# Altium footprint library TracksTest.PcbLib: 6 footprints
Each footprint in its own frame and in the unit in brackets; x right, y up, seen from the top. Pads: shape width x height; smd on the part's side, far side on the other; paste and mask are expansions set on the pad; w line width, h text height; cw(c..) or ccw(c..) is an arc to the next point about the centre after c.
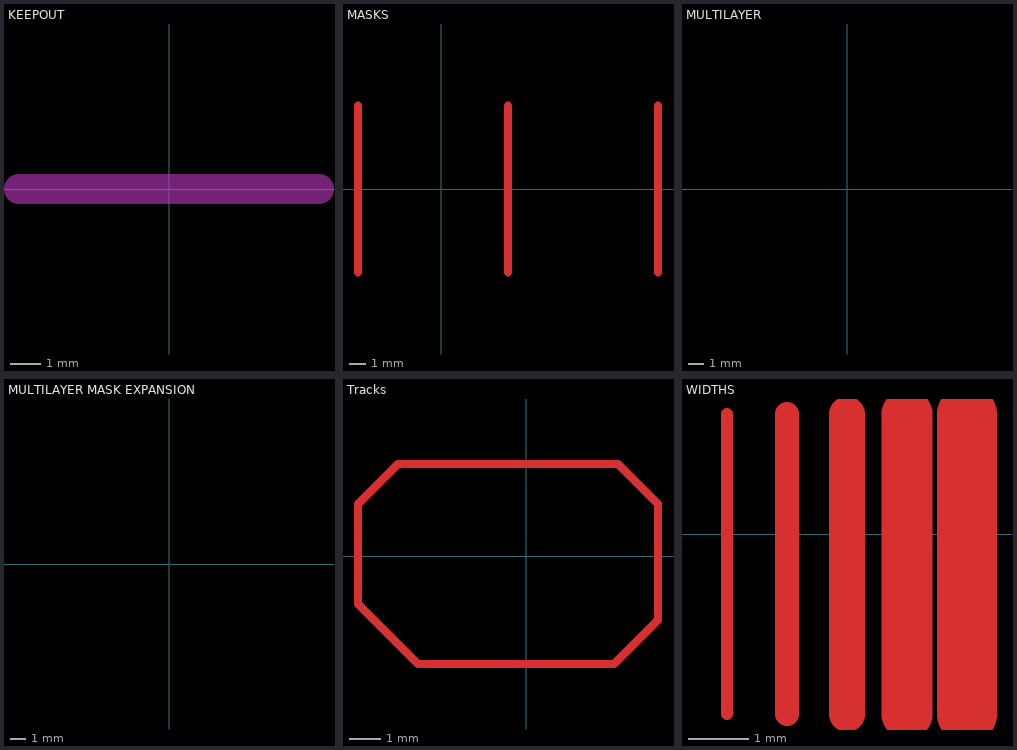
[diagram p0: the footprints below, top view; thin cyan lines are the x and y axes]

## KEEPOUT [mm] "Keepouyt via/track/copper/smd/th"
Top Layer keep-out:
  lines w1: -5,0 5,0

## MASKS [mm] "Various mask settings"
Top Layer:
  lines w0.5: -5,-5 -5,5 ; 4,-5 4,5 ; 13,-5 13,5
Drill Drawing:
  text "Mask Exp" at -19.746,-7.238 h1.52
  text "-0.1" at 10.254,-7.746 h1.52
  text "-0.25" at -0.746,-7.746 h1.52
  text "-1" at -5.746,-7.746 h1.52

## MULTILAYER [mm] "A multilayer track"
Multi-Layer:
  lines w0.254: -10,0 10,0

## MULTILAYER MASK EXPANSION [mm] "A multilayer track and inner-layer tracks with mask expansion"
Multi-Layer:
  lines w0.5: -10,-2 10,-2 ; -10,0 10,0 ; -10,2 10,2

## Tracks [mm] "A few tracks in different directions"
Top Layer:
  lines w0.254: -5.334,-1.524 -3.429,-3.429 2.794,-3.429 4.191,-2.032 4.191,1.651 2.921,2.921 -4.064,2.921 -5.334,1.651 -5.334,-1.524

## WIDTHS [mm] "A few different track widths"
Top Layer:
  lines w0.2: -2,-3 -2,2
  lines w0.4: -1,-3 -1,2
  lines w0.6: 0,-3 0,2
  lines w0.85: 1,-3 1,2
  lines w1: 2,-3 2,2